# Altium schematic symbol library PNP SOT23.Schlib: 1 symbol
Pins are listed as number, name and electrical type; pins without a type are passive.

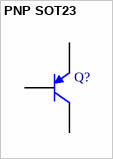
[diagram p0: symbol PNP SOT23]

## PNP SOT23
designator Q?
pins: 1 B, 2 E, 3 C